# EAGLE library part ELE02_ESP8266 (library ele02)
ESP8266 IoT
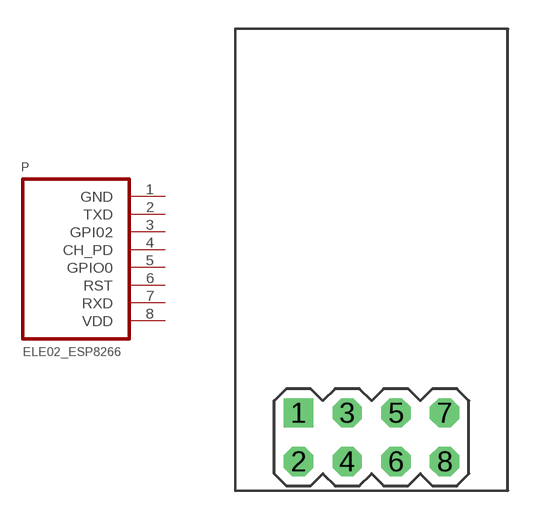
[diagram p4: symbol with the pads of ELE02_ESP8266; footprint ELE02_ESP8266]

Designator prefix P

## ELE02_ESP8266  [ELE02_ESP8266]
1  GND
2  TXD
3  GPI02
4  CH_PD
5  GPIO0  nc
6  RST
7  RXD
8  VDD

## Footprint ELE02_ESP8266 (pad centres in mm)
drill 1.016 square: 1 1.27,3.81
drill 1.016 octagon: 2 1.27,1.27; 3 3.81,3.81; 4 3.81,1.27; 5 6.35,3.81; 6 6.35,1.27; 7 8.89,3.81; 8 8.89,1.27